# Altium footprint library WP-PFICFA.PcbLib: 3 footprints
Each footprint in its own frame and in the unit in brackets; x right, y up, seen from the top. Pads: shape width x height; smd on the part's side, far side on the other; paste and mask are expansions set on the pad; w line width, h text height; cw(c..) or ccw(c..) is an arc to the next point about the centre after c.
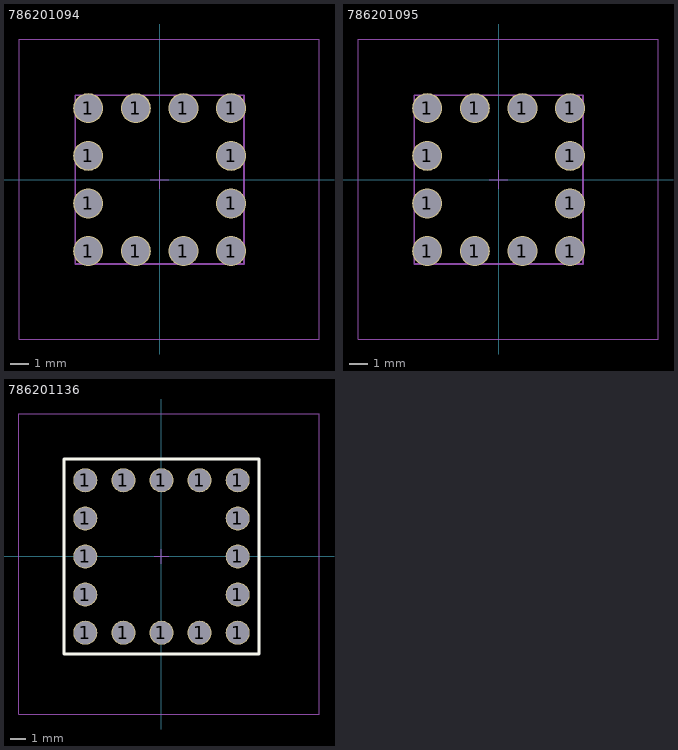
[diagram p0: the footprints below, top view; thin cyan lines are the x and y axes]

## 786201094 [mm] "REDCUBE PRESS-FIT, body 9.00 x 9.00 mm"
height 5
pads (12):
  round 1.6 hole 1.475: 1(-3.81,-3.81) 1(-3.81,-1.27) 1(-3.81,1.27) 1(-3.81,3.81) 1(-1.27,-3.81) 1(-1.27,3.81) 1(1.27,-3.81) 1(1.27,3.81) 1(3.81,-3.81) 1(3.81,-1.27) 1(3.81,1.27) 1(3.81,3.81)
Assembly Notes:
  text "No components around the REDCUBE system with a minimum safety distance of 4mm / Do no place the REDCUBE within 3mm of PCB boundary" at -5.2,-6.45 h0.5
Top Component Outline:
  lines w0.1: -4.5,-4.5 -4.5,4.5 4.5,4.5 4.5,-4.5 -4.5,-4.5
Top Courtyard:
  lines w0.05: -7.5,-8.5 8.5,-8.5 8.5,7.5 -7.5,7.5 -7.5,-8.5
Top Component Center:
  lines w0.05: -0.5,0 0.5,0 ; 0,-0.5 0,0.5
Top Designator (Mech19):
  text ".Designator" at -7.498,-0.5 h1.5
3D body "786201094.stp": height 5.05, standoff -2.95, extent -4.5,-4.5 4.5,4.5

## 786201095 [mm] "REDCUBE PRESS-FIT, body 9.00 x 9.00 mm"
height 5
pads (12):
  round 1.6 hole 1.475: 1(-3.81,-3.81) 1(-3.81,-1.27) 1(-3.81,1.27) 1(-3.81,3.81) 1(-1.27,-3.81) 1(-1.27,3.81) 1(1.27,-3.81) 1(1.27,3.81) 1(3.81,-3.81) 1(3.81,-1.27) 1(3.81,1.27) 1(3.81,3.81)
Assembly Notes:
  text "No components around the REDCUBE system with a minimum safety distance of 4mm / Do no place the REDCUBE within 3mm of PCB boundary" at -5.2,-6.45 h0.5
Top Component Outline:
  lines w0.1: -4.5,-4.5 4.5,-4.5 4.5,4.5 -4.5,4.5 -4.5,-4.5
Top Courtyard:
  lines w0.05: -7.5,-8.5 -7.5,7.5 8.5,7.5 8.5,-8.5 -7.5,-8.5
Top Component Center:
  lines w0.05: -0.5,0 0.5,0 ; 0,-0.5 0,0.5
Top Designator (Mech19):
  text ".Designator" at -7.498,-0.5 h1.5
3D body "786201095.stp": height 5.05, standoff -2.95, extent -4.5,-4.5 4.5,4.5

## 786201136 [mm] "REDCUBE PRESS-FIT, body 13.00 x 13.00 mm"
height 8
pads (16):
  round 1.6 hole 1.475: 1(-5.08,-5.08) 1(-5.08,-2.54) 1(-5.08,0) 1(-5.08,2.54) 1(-5.08,5.08) 1(-2.54,-5.08) 1(-2.54,5.08) 1(0,-5.08) 1(0,5.08) 1(2.54,-5.08) 1(2.54,5.08) 1(5.08,-5.08) 1(5.08,-2.54) 1(5.08,0) 1(5.08,2.54) 1(5.08,5.08)
Top Overlay:
  lines w0.2: -6.5,-6.5 6.5,-6.5 6.5,6.5 -6.5,6.5 -6.5,-6.5
Assembly Notes:
  text "No components around the REDCUBE system with a minimum safety distance of 4mm / Do no place the REDCUBE within 3mm of PCB boundary" at -5.2,-8.45 h0.5
Top Component Outline:
  lines w0.1: -6.5,-6.5 -6.5,6.5 6.5,6.5 6.5,-6.5 -6.5,-6.5
Top Courtyard:
  lines w0.05: -9.5,-10.5 10.5,-10.5 10.5,9.5 -9.5,9.5 -9.5,-10.5
Top Component Center:
  lines w0.05: -0.5,0 0.5,0 ; 0,-0.5 0,0.5
Top Designator (Mech19):
  text ".Designator" at -7.498,-0.5 h1.5
3D body "786201136.stp": height 8.05, standoff -2.95, extent -6.5,-6.5 6.5,6.5